# EAGLE library part TRINKET-PRO-5V (library Distance_Lapse_Camera_Trigger_v38)
Trinket Pro 5v thang
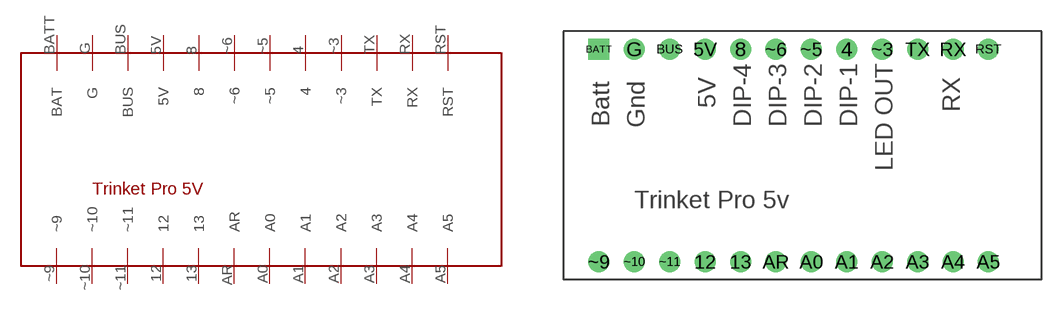
[diagram p1: symbol with the pads of TRINKET-PRO-5V; footprint TRINKET-PRO-5V]

Designator prefix -

## TRINKET-PRO-5V  [TRINKET-PRO-5V]
4  4
5V  5V
8  8
12  12
13  13
A0  A0
A1  A1
A2  A2
A3  A3
A4  A4
A5  A5
AR  AR
BATT  BAT
BUS  BUS
G  G
RST  RST
RX  RX
TX  TX
~3  ~3
~5  ~5
~6  ~6
~9  ~9
~10  ~10
~11  ~11

## Footprint TRINKET-PRO-5V (pad centres in mm)
drill 1: 4 -10.16,15.24; 5V -20.32,15.24; 8 -17.78,15.24; 12 -20.32,0; 13 -17.78,0; A0 -12.7,0; A1 -10.16,0; A2 -7.62,0; A3 -5.08,0; A4 -2.54,0; A5 0,0; AR -15.24,0; BUS -22.86,15.24; G -25.4,15.24; RST 0,15.24; RX -2.54,15.24; TX -5.08,15.24; ~3 -7.62,15.24; ~5 -12.7,15.24; ~6 -15.24,15.24; ~9 -27.94,0; ~10 -25.4,0; ~11 -22.86,0
drill 1 square: BATT -27.94,15.24